# EAGLE library part ESP-32-DEV (library draradech)
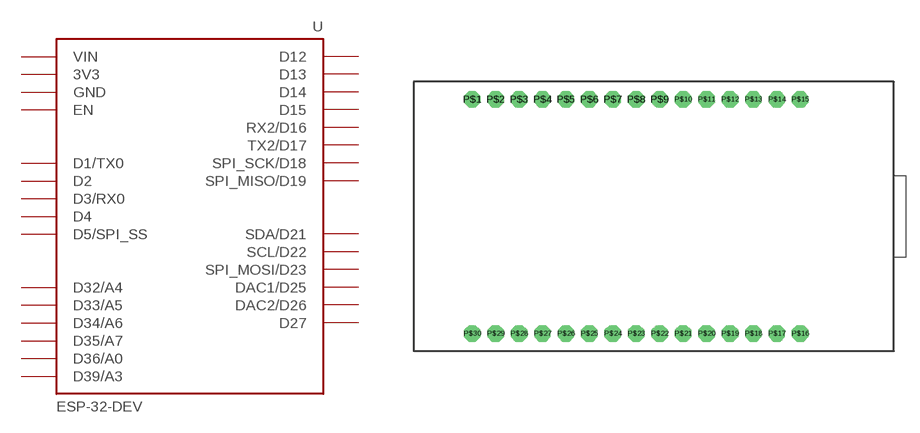
[diagram p5: symbol with the pads of ESP-32-DEV; footprint ESP-32-DEV]

Designator prefix U

## ESP-32-DEV  [ESP-32-DEV]
P$1  SPI_MOSI/D23
P$2  SCL/D22
P$3  D1/TX0
P$4  D3/RX0
P$5  SDA/D21
P$6  SPI_MISO/D19
P$7  SPI_SCK/D18
P$8  D5/SPI_SS
P$9  TX2/D17
P$10  RX2/D16
P$11  D4
P$12  D2
P$13  D15
P$14  GND
P$15  3V3
P$16  VIN
P$17  GND
P$18  D13
P$19  D12
P$20  D14
P$21  D27
P$22  DAC2/D26
P$23  DAC1/D25
P$24  D33/A5
P$25  D32/A4
P$26  D35/A7
P$27  D34/A6
P$28  D39/A3
P$29  D36/A0
P$30  EN

## Footprint ESP-32-DEV (pad centres in mm)
drill 1 pad 1.778 octagon: P$1 0,0; P$2 2.54,0; P$3 5.08,0; P$4 7.62,0; P$5 10.16,0; P$6 12.7,0; P$7 15.24,0; P$8 17.78,0; P$9 20.32,0; P$10 22.86,0; P$11 25.4,0; P$12 27.94,0; P$13 30.48,0; P$14 33.02,0; P$15 35.56,0; P$16 35.56,-25.4; P$17 33.02,-25.4; P$18 30.48,-25.4; P$19 27.94,-25.4; P$20 25.4,-25.4; P$21 22.86,-25.4; P$22 20.32,-25.4; P$23 17.78,-25.4; P$24 15.24,-25.4; P$25 12.7,-25.4; P$26 10.16,-25.4; P$27 7.62,-25.4; P$28 5.08,-25.4; P$29 2.54,-25.4; P$30 0,-25.4